# Altium schematic symbol library LPC1343.SchLib: 1 symbol
Pins are listed as number, name and electrical type; pins without a type are passive.

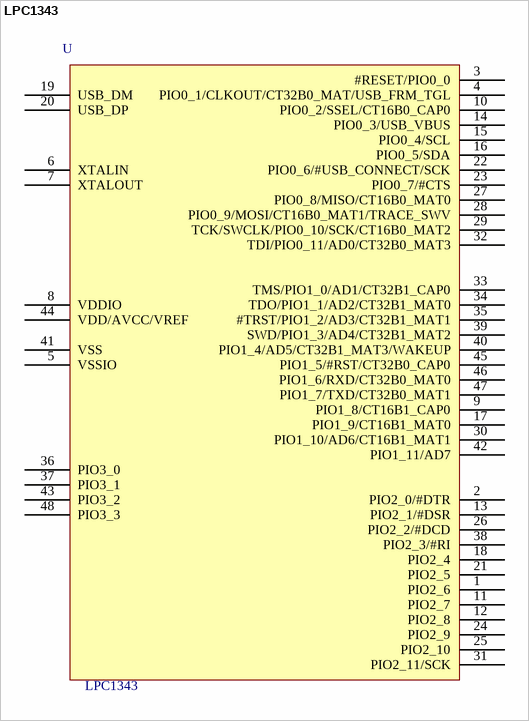
[diagram p0: symbol LPC1343]

## LPC1343
designator U  value LPC1343  (hidden comment: *)
Manufacturer Code: LPC1343FBD48; Manufacturer: NXP; Farnell Code: 1762580; Unit Price: 4,18 €
footprint LQFP-48
pins: 1 PIO2_6, 2 PIO2_0/#DTR, 3 #RESET/PIO0_0, 4 PIO0_1/CLKOUT/CT32B0_MAT/USB_FRM_TGL, 5 VSSIO, 6 XTALIN, 7 XTALOUT, 8 VDDIO, 9 PIO1_8/CT16B1_CAP0, 10 PIO0_2/SSEL/CT16B0_CAP0, 11 PIO2_7, 12 PIO2_8, 13 PIO2_1/#DSR, 14 PIO0_3/USB_VBUS, 15 PIO0_4/SCL, 16 PIO0_5/SDA, 17 PIO1_9/CT16B1_MAT0, 18 PIO2_4, 19 USB_DM, 20 USB_DP, 21 PIO2_5, 22 PIO0_6/#USB_CONNECT/SCK, 23 PIO0_7/#CTS, 24 PIO2_9, 25 PIO2_10, 26 PIO2_2/#DCD, 27 PIO0_8/MISO/CT16B0_MAT0, 28 PIO0_9/MOSI/CT16B0_MAT1/TRACE_SWV, 29 TCK/SWCLK/PIO0_10/SCK/CT16B0_MAT2, 30 PIO1_10/AD6/CT16B1_MAT1, 31 PIO2_11/SCK, 32 TDI/PIO0_11/AD0/CT32B0_MAT3, 33 TMS/PIO1_0/AD1/CT32B1_CAP0, 34 TDO/PIO1_1/AD2/CT32B1_MAT0, 35 #TRST/PIO1_2/AD3/CT32B1_MAT1, 36 PIO3_0, 37 PIO3_1, 38 PIO2_3/#RI, 39 SWD/PIO1_3/AD4/CT32B1_MAT2, 40 PIO1_4/AD5/CT32B1_MAT3/WAKEUP, 41 VSS, 42 PIO1_11/AD7, 43 PIO3_2, 44 VDD/AVCC/VREF, 45 PIO1_5/#RST/CT32B0_CAP0, 46 PIO1_6/RXD/CT32B0_MAT0, 47 PIO1_7/TXD/CT32B0_MAT1, 48 PIO3_3